# EAGLE library part FSM300 (library COM-13909)
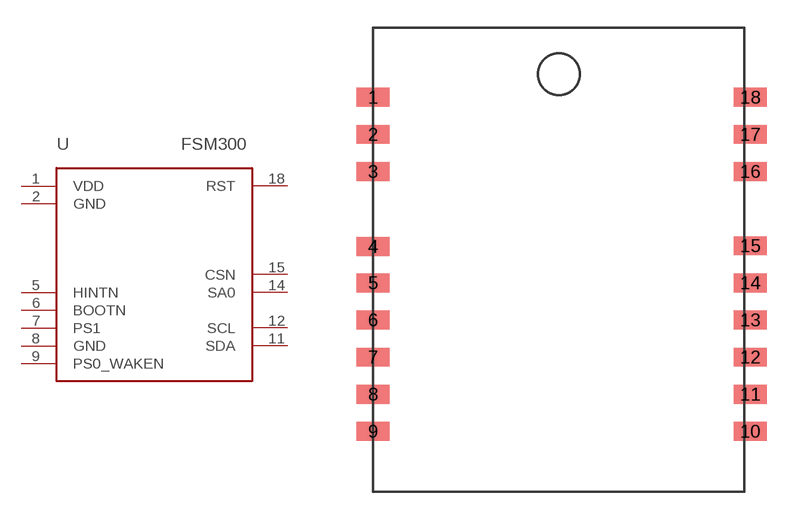
[diagram p2: symbol with the pads of FSM300_FOOTPRINT; footprint FSM300_FOOTPRINT]

Designator prefix -

## FSM300  [FSM300_FOOTPRINT]
1  VDD
2  GND
5  HINTN
6  BOOTN
7  PS1
8  GND
9  PS0_WAKEN
11  SDA
12  SCL
14  SA0
15  CSN
18  RST

## Footprint FSM300_FOOTPRINT (pad centres in mm)
smd 1.778 x 1.016: 1 0,21.25; 2 0,19.25; 3 0,17.25; 4 0,13.208; 5 0,11.25; 6 0,9.25; 7 0,7.25; 8 0,5.25; 9 0,3.25; 10 20.32,3.25; 11 20.32,5.25; 12 20.32,7.25; 13 20.32,9.25; 14 20.32,11.25; 15 20.32,13.25; 16 20.32,17.25; 17 20.32,19.25; 18 20.32,21.25